# EAGLE library part STM32F207V*T_ (library gost_stm32)
ARM 32-bit Cortex™-M3 CPU 120 MHz maximum frequency 256 to 1024 Kbytes of Flash memory 128 kbytes of SRAM 82 GPIOs 1.8 to 3.6 V application supply
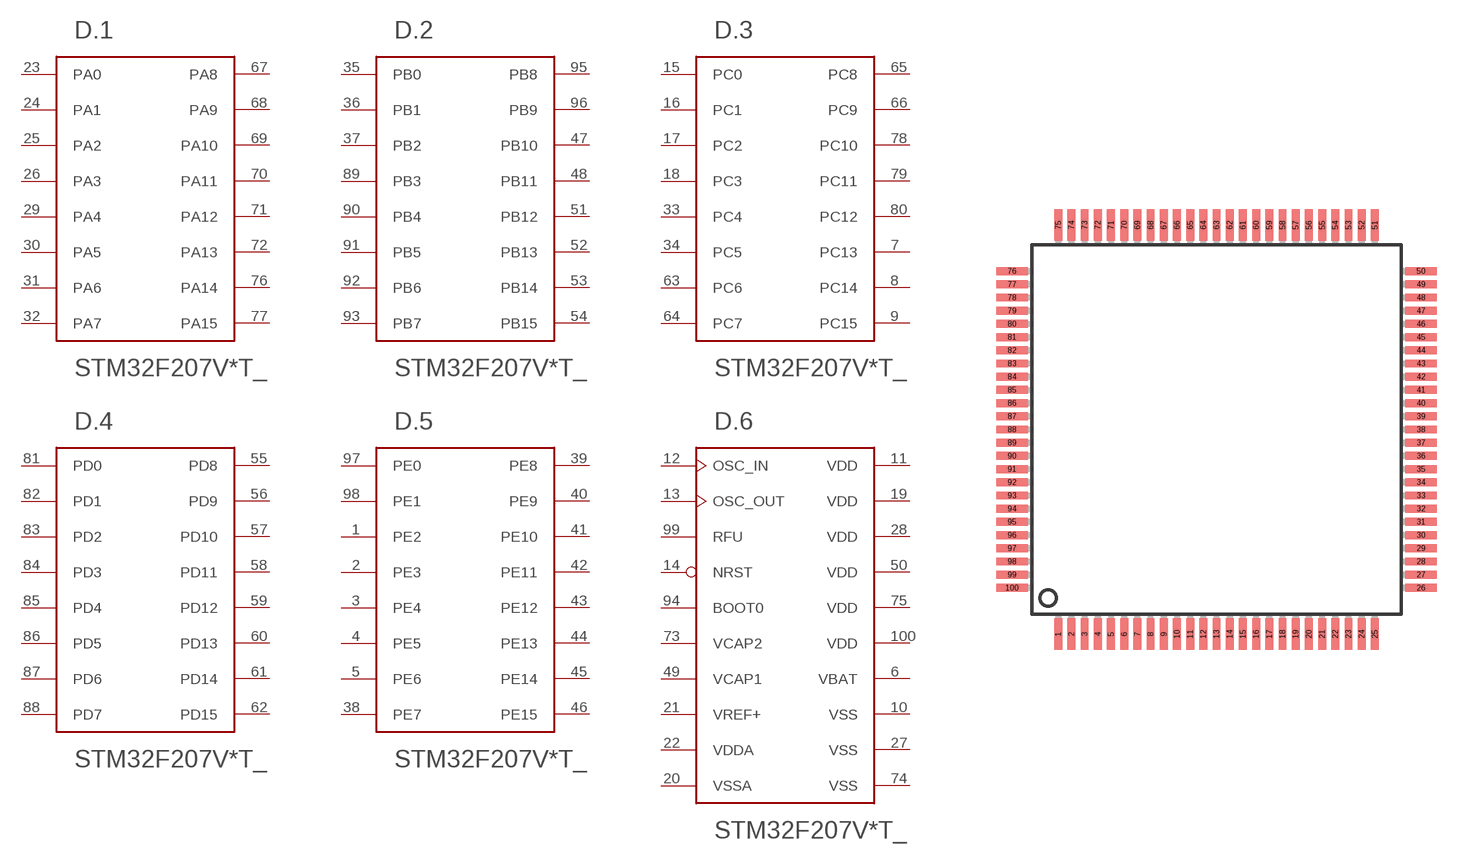
[diagram p1: symbol with the pads of LQFP100; footprint LQFP100]

Designator prefix D; gates .1=PA .2=PB .3=PC .4=PD .5=PE .6=F207_QFP100_OSC_PWR

## STM32F207VCT_, STM32F207VET_, STM32F207VFT_, STM32F207VGT_  [LQFP100]
1  .5:PE2
2  .5:PE3
3  .5:PE4
4  .5:PE5
5  .5:PE6
6  .6:VBAT  pwr
7  .3:PC13
8  .3:PC14
9  .3:PC15
10  .6:VSS  pwr
11  .6:VDD  pwr
12  .6:OSC_IN
13  .6:OSC_OUT
14  .6:NRST
15  .3:PC0
16  .3:PC1
17  .3:PC2
18  .3:PC3
19  .6:VDD  pwr
20  .6:VSSA  pwr
21  .6:VREF+  pwr
22  .6:VDDA  pwr
23  .1:PA0
24  .1:PA1
25  .1:PA2
26  .1:PA3
27  .6:VSS  pwr
28  .6:VDD  pwr
29  .1:PA4
30  .1:PA5
31  .1:PA6
32  .1:PA7
33  .3:PC4
34  .3:PC5
35  .2:PB0
36  .2:PB1
37  .2:PB2
38  .5:PE7
39  .5:PE8
40  .5:PE9
41  .5:PE10
42  .5:PE11
43  .5:PE12
44  .5:PE13
45  .5:PE14
46  .5:PE15
47  .2:PB10
48  .2:PB11
49  .6:VCAP1  pwr
50  .6:VDD  pwr
51  .2:PB12
52  .2:PB13
53  .2:PB14
54  .2:PB15
55  .4:PD8
56  .4:PD9
57  .4:PD10
58  .4:PD11
59  .4:PD12
60  .4:PD13
61  .4:PD14
62  .4:PD15
63  .3:PC6
64  .3:PC7
65  .3:PC8
66  .3:PC9
67  .1:PA8
68  .1:PA9
69  .1:PA10
70  .1:PA11
71  .1:PA12
72  .1:PA13
73  .6:VCAP2  pwr
74  .6:VSS  pwr
75  .6:VDD  pwr
76  .1:PA14
77  .1:PA15
78  .3:PC10
79  .3:PC11
80  .3:PC12
81  .4:PD0
82  .4:PD1
83  .4:PD2
84  .4:PD3
85  .4:PD4
86  .4:PD5
87  .4:PD6
88  .4:PD7
89  .2:PB3
90  .2:PB4
91  .2:PB5
92  .2:PB6
93  .2:PB7
94  .6:BOOT0  in
95  .2:PB8
96  .2:PB9
97  .5:PE0
98  .5:PE1
99  .6:RFU  in
100  .6:VDD  pwr

## Footprint LQFP100 (pad centres in mm)
LQFP100 14 x 14 mm, 100-pin low-profile quad flat package
smd 0.3 x 1.2: 1 -6,-7.75; 2 -5.5,-7.75; 3 -5,-7.75; 4 -4.5,-7.75; 5 -4,-7.75; 6 -3.5,-7.75; 7 -3,-7.75; 8 -2.5,-7.75; 9 -2,-7.75; 10 -1.5,-7.75; 11 -1,-7.75; 12 -0.5,-7.75; 13 0,-7.75; 14 0.5,-7.75; 15 1,-7.75; 16 1.5,-7.75; 17 2,-7.75; 18 2.5,-7.75; 19 3,-7.75; 20 3.5,-7.75; 21 4,-7.75; 22 4.5,-7.75; 23 5,-7.75; 24 5.5,-7.75; 25 6,-7.75; 51 6,7.75; 52 5.5,7.75; 53 5,7.75; 54 4.5,7.75; 55 4,7.75; 56 3.5,7.75; 57 3,7.75; 58 2.5,7.75; 59 2,7.75; 60 1.5,7.75; 61 1,7.75; 62 0.5,7.75; 63 0,7.75; 64 -0.5,7.75; 65 -1,7.75; 66 -1.5,7.75; 67 -2,7.75; 68 -2.5,7.75; 69 -3,7.75; 70 -3.5,7.75; 71 -4,7.75; 72 -4.5,7.75; 73 -5,7.75; 74 -5.5,7.75; 75 -6,7.75
smd 1.2 x 0.3: 26 7.75,-6; 27 7.75,-5.5; 28 7.75,-5; 29 7.75,-4.5; 30 7.75,-4; 31 7.75,-3.5; 32 7.75,-3; 33 7.75,-2.5; 34 7.75,-2; 35 7.75,-1.5; 36 7.75,-1; 37 7.75,-0.5; 38 7.75,0; 39 7.75,0.5; 40 7.75,1; 41 7.75,1.5; 42 7.75,2; 43 7.75,2.5; 44 7.75,3; 45 7.75,3.5; 46 7.75,4; 47 7.75,4.5; 48 7.75,5; 49 7.75,5.5; 50 7.75,6; 76 -7.75,6; 77 -7.75,5.5; 78 -7.75,5; 79 -7.75,4.5; 80 -7.75,4; 81 -7.75,3.5; 82 -7.75,3; 83 -7.75,2.5; 84 -7.75,2; 85 -7.75,1.5; 86 -7.75,1; 87 -7.75,0.5; 88 -7.75,0; 89 -7.75,-0.5; 90 -7.75,-1; 91 -7.75,-1.5; 92 -7.75,-2; 93 -7.75,-2.5; 94 -7.75,-3; 95 -7.75,-3.5; 96 -7.75,-4; 97 -7.75,-4.5; 98 -7.75,-5; 99 -7.75,-5.5; 100 -7.75,-6